# Altium footprint library Header_3.5mm Jack_1.PcbLib: 1 footprints
Each footprint in its own frame and in the unit in brackets; x right, y up, seen from the top. Pads: shape width x height; smd on the part's side, far side on the other; paste and mask are expansions set on the pad; w line width, h text height; cw(c..) or ccw(c..) is an arc to the next point about the centre after c.
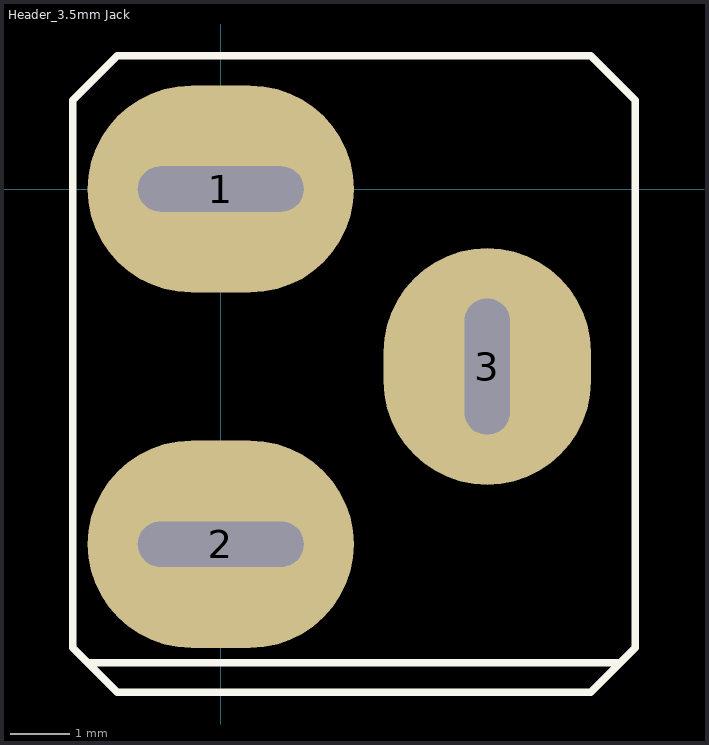
[diagram p0: the footprint, top view; thin cyan lines are the x and y axes]

## Header_3.5mm Jack [mm]
pads (3):
  oval 4.5x3.5 hole 0.762 slot 2.8 at 0 deg: 1(0,0) 2(0,-6)
  oval 3.5x4 hole 2.3 slot 0.762 at 0 deg: 3(4.5,-3)
Top Overlay:
  lines w0.127: -2.25,-8 6.75,-8 ; -1.75,2.25 6.25,2.25 7,1.5 7,-7.75 6.25,-8.5 -1.75,-8.5 -2.5,-7.75 -2.5,1.5 -1.75,2.25 ; -1.75,2.25 -1.75,2.25